# EAGLE library part LSM330DLC (library LSM330DLC)
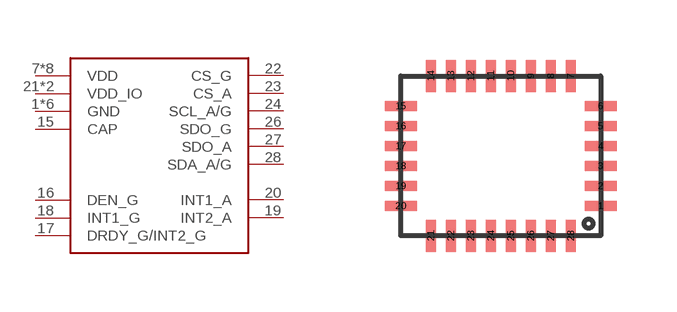
[diagram p0: symbol with the pads of LGA-28L; footprint LGA-28L]

Designator prefix -

## LSM330DLC  [LGA-28L]
1  GND  sup
2  GND  sup
3  GND  sup
4  GND  sup
5  GND  sup
6  GND  sup
7  VDD  pwr
8  VDD  pwr
9  VDD  pwr
10  VDD  pwr
11  VDD  pwr
12  VDD  pwr
13  VDD  pwr
14  VDD  pwr
15  CAP  pas
16  DEN_G  in
17  DRDY_G/INT2_G  out
18  INT1_G  out
19  INT2_A  out
20  INT1_A  out
21  VDD_IO  pwr
22  CS_G  in
23  CS_A  in
24  SCL_A/G  in
25  VDD_IO  pwr
26  SDO_G  out
27  SDO_A  out
28  SDA_A/G  in

## Footprint LGA-28L (pad centres in mm)
smd 0.8 x 0.25: 1 2.5,-1.25; 2 2.5,-0.75; 3 2.5,-0.25; 4 2.5,0.25; 5 2.5,0.75; 6 2.5,1.25; 15 -2.5,1.25; 16 -2.5,0.75; 17 -2.5,0.25; 18 -2.5,-0.25; 19 -2.5,-0.75; 20 -2.5,-1.25
smd 0.25 x 0.8: 7 1.75,2; 8 1.25,2; 9 0.75,2; 10 0.25,2; 11 -0.25,2; 12 -0.75,2; 13 -1.25,2; 14 -1.75,2; 21 -1.75,-2; 22 -1.25,-2; 23 -0.75,-2; 24 -0.25,-2; 25 0.25,-2; 26 0.75,-2; 27 1.25,-2; 28 1.75,-2